# Altium schematic symbol library Sensorboard_Library.SchLib: 12 symbols
Pins are listed as number, name and electrical type; pins without a type are passive.

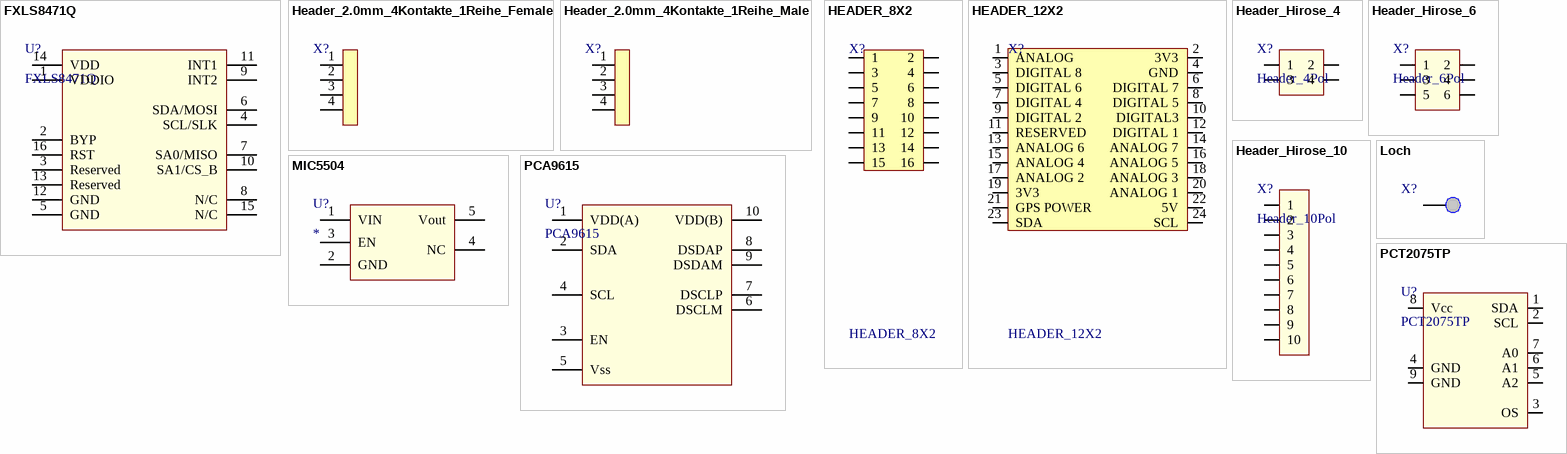
[diagram p0: symbols FXLS8471Q to PCT2075TP]

## FXLS8471Q
designator U?
3-Axis,  Linear Accelerometer; Manufacturer Part Number: FXLS8471QR1; Manufacturer: NXP; Value: FXLS8471Q; Supplier Part Number 2: 841-FXLS8471QR1; Supplier Part Number 1: FXLS8471QR1CT-ND; Supplier 2: Mouser; Supplier 1: Digi-Key
footprint HDR2X6_V_M (Connector; Header; 6x2 Position male)
pins: 1 VDDIO, 2 BYP, 3 Reserved, 4 SCL/SLK, 5 GND, 6 SDA/MOSI, 7 SA0/MISO, 8 N/C, 9 INT2, 10 SA1/CS_B, 11 INT1, 12 GND, 13 Reserved, 14 VDD, 15 N/C, 16 RST

## Header_2.0mm_4Kontakte_1Reihe_Female
designator X?  (value not drawn)
Manufacturer: NorComp; Manufacturer Part Nr: 28630406RP2; Digikey Nr.: 2863S-04-ND; Mouser Nr.: 636-28630406RP2
footprint Header_2.0mm_4Kontakte_1Reihe_Female
pins: 1, 2, 3, 4

## Header_2.0mm_4Kontakte_1Reihe_Male
designator X?  (value not drawn)
Manufacturer Part Number: 951104-8622-AR; Manufacturer: 3M; DigiKey Nr.: 3M9323-ND; Mouser Nr.: 517-951104-8622-AR
footprint Header_2.0mm_4Kontakte_1Reihe_Male
pins: 1, 2, 3, 4

## HEADER_8X2
designator X?
Header, 16-Pin, Dual row; Supplier 1: *; Supplier 2: *; Manufacturer: *; Manufacturer Part Number: *; Supplier Part Number 1: *; Supplier Part Number 2: *
footprint HDR2X8_V_M (Connector; Header; 8x2 Position male)
pins: 1, 2, 3, 4, 5, 6, 7, 8, 9, 10, 11, 12, 13, 14, 15, 16

## HEADER_12X2
designator X?
Header, 12-Pin, Dual row; Supplier 1: *; Supplier 2: *; Manufacturer: *; Manufacturer Part Number: *; Supplier Part Number 1: *; Supplier Part Number 2: *
footprint HDR2X12_V_M (Connector; Header; 6x2 Position male)
pins: 1 ANALOG, 2 3V3, 3 DIGITAL 8, 4 GND, 5 DIGITAL 6, 6 DIGITAL 7, 7 DIGITAL 4, 8 DIGITAL 5, 9 DIGITAL 2, 10 DIGITAL3, 11 RESERVED, 12 DIGITAL 1, 13 ANALOG 6, 14 ANALOG 7, 15 ANALOG 4, 16 ANALOG 5, 17 ANALOG 2, 18 ANALOG 3, 19 3V3, 20 ANALOG 1, 21 GPS POWER, 22 5V, 23 SDA, 24 SCL

## Header_Hirose_4
designator X?, comment Header_4Pol
Header Hirose 4 Pol; Manufacturer Part Number: DF11-4DP-2DSA(24); Value: Header_4Pol; Supplier 1: Digi-Key; Supplier Part Number 1: H10229-ND; Manufacturer: Hirose; Supplier 2: Mouser; Supplier Part Number 2: 798-DF11-4DP-2DSA24
footprint Header_2mm_4Pol
pins: 1, 2, 3, 4

## Header_Hirose_6
designator X?, comment Header_6Pol
Header Hirose 6 Pol; Manufacturer Part Number: DF11-6DP-2DSA(24); Value: Header_6Pol; Supplier 1: Digi-Key; Supplier Part Number 1: H10230-ND; Manufacturer: Hirose; Supplier 2: Mouser; Supplier Part Number 2: 798-DF11-6DP-2DSA24
footprint Header_2mm_6Pol
pins: 1, 2, 3, 4, 5, 6

## Header_Hirose_10
designator X?, comment Header_10Pol
Header Hirose 10 Pol; Manufacturer Part Number: DF11-10DP-2DSA(24); Value: Header_10Pol; Supplier 1: Digi-Key; Supplier Part Number 1: H10232-ND; Manufacturer: Hirose; Supplier 2: Mouser; Supplier Part Number 2: 798-DF11-10DP-2DSA24
footprint Header_2mm_10Pol
pins: 1, 2, 3, 4, 5, 6, 7, 8, 9, 10

## Loch
designator X?  (value not drawn)
Loch in Print um Kabel einzulöten
footprint Loch (Loch um Kabel einzulöten)
pins: 1

## MIC5504
designator U?
footprint MIC5504
pins: 1 VIN, 2 GND, 3 EN, 4 NC, 5 Vout

## PCA9615
designator U?
differential I2C-bus buffer; Manufacturer Part Number: PCA9615DPJ; Manufacturer: NXP; Value: PCA9615; Supplier Part Number 2: 771-PCA9615DPJ; Supplier Part Number 1: 568-11484-1-ND; Supplier 1: Digi-Key; Supplier 2: Mouser
footprint TSSOP10
pins: 1 VDD(A), 2 SDA, 3 EN, 4 SCL, 5 Vss, 6 DSCLM, 7 DSCLP, 8 DSDAP, 9 DSDAM, 10 VDD(B)

## PCT2075TP
designator U?
Temperature_Sensor; Manufacturer: NXP; Manufacturer Part Number: PCT2075TP,147; Value: PCT2075TP; Supplier 1: Digi-Key; Supplier 2: Mouser; Supplier Part Number 1: 568-10220-1-ND; Supplier Part Number 2: 771-PCT2075TP147
footprint HWSON8
pins: 1 SDA, 2 SCL, 3 OS, 4 GND, 5 A2, 6 A1, 7 A0, 8 Vcc, 9 GND